# EAGLE library part TPS63030 (library My_TI)
HIGH EFFICIENCY SINGLE INDUCTOR BUCK-BOOST CONVERTER WITH 1-A SWITCHES. Input Voltage Range: 1.8V to 5.5V. http://www.ti.com/lit/ds/symlink/tps63030.pdf
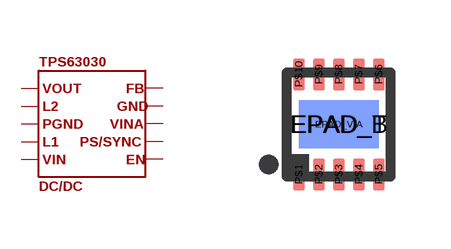
[diagram p16: symbol with the pads of WSON10; footprint WSON10]

Designator prefix DC/DC

## TPS63030  [WSON10]
EPAD_B  P$3
EPAD_T  P$3
EPAD_VIA  P$3
P$1  P$1
P$2  P$2
P$3  P$3
P$4  P$4
P$5  P$5
P$6  P$6
P$7  P$7
P$8  P$8
P$9  P$9
P$10  P$10

## Footprint WSON10 (pad centres in mm)
smd 2 x 1.2 bottom: EPAD_B 0,0
smd 2 x 1.2: EPAD_T 0,0
drill 0.4 pad 1.016: EPAD_VIA 0,0
smd 0.28 x 0.8: P$1 -1,-1.25; P$2 -0.5,-1.25; P$3 0,-1.25; P$4 0.5,-1.25; P$5 1,-1.25; P$6 1,1.25; P$7 0.5,1.25; P$8 0,1.25; P$9 -0.5,1.25; P$10 -1,1.25